# Altium footprint library Mechanical components.PcbLib: 4 footprints
Each footprint in its own frame and in the unit in brackets; x right, y up, seen from the top. Pads: shape width x height; smd on the part's side, far side on the other; paste and mask are expansions set on the pad; w line width, h text height; cw(c..) or ccw(c..) is an arc to the next point about the centre after c.
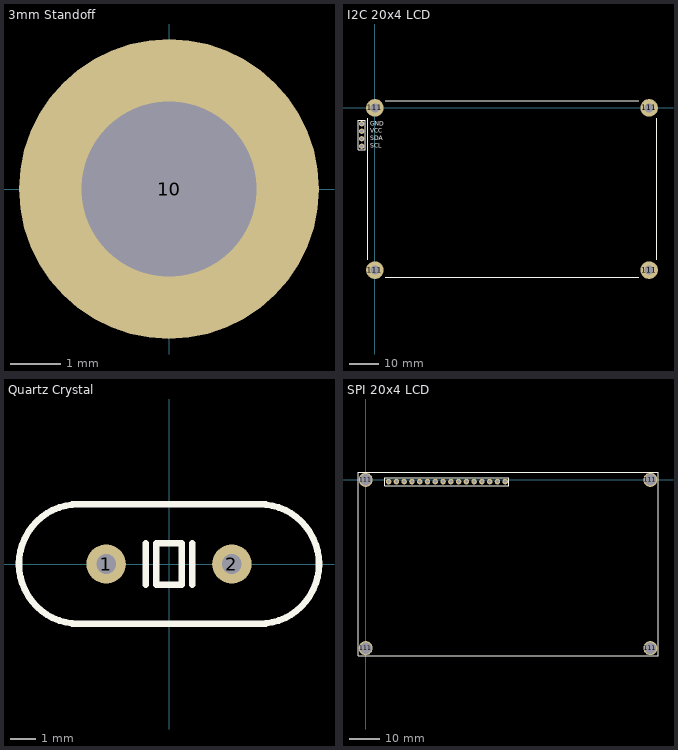
[diagram p0: the footprints below, top view; thin cyan lines are the x and y axes]

## 3mm Standoff [mm]
pads (1):
  round 6 hole 3.5: 10(0,0)

## I2C 20x4 LCD [mm] "20x4 LCD screen I2C interface"
pads (8):
  round 1.8 hole 1: 1(-4.5,-5.38) 2(-4.5,-7.92) 3(-4.5,-10.46) 4(-4.5,-13)
  round 6 hole 3.1: 111(0,-55) 111(0,0) 111(93,-55) 111(93,0)
Top Overlay:
  lines w0.254: -2.5,-51.5 -2.5,-3.5 ; 3.5,-57.5 89.5,-57.5 ; 3.5,2.5 89.5,2.5 ; 95.5,-51.5 95.5,-3.5 ; -5.73,-14.19 -5.73,-4.19 -3.23,-4.19 -3.23,-14.19 -5.73,-14.19
  text "SCL" at -1.646,-13.526 h1.52
  text "SDA" at -1.646,-10.926 h1.52
  text "VCC" at -1.646,-8.426 h1.52
  text "GND" at -1.646,-6.026 h1.52
3D body "Lcd i2c.STEP": height 21.54, standoff 2.59, extent -2.5,-57.46 95.5,2.54
3D body "M3_M_TO_F_10MM_STANDOFF.STEP": height 16, standoff 0, extent -2.887,-57.5 2.887,-52.5
3D body "M3_M_TO_F_10MM_STANDOFF.STEP": height 16, standoff 0, extent 90.113,-57.5 95.887,-52.5
3D body "M3_M_TO_F_10MM_STANDOFF.STEP": height 16, standoff 0, extent 90.113,-2.5 95.887,2.5
3D body "M3_M_TO_F_10MM_STANDOFF.STEP": height 16, standoff 0, extent -2.887,-2.5 2.887,2.5

## Quartz Crystal [mil]
pads (2):
  round 60 hole 30: 1(-96.06,0) 2(96.06,0)
Top Overlay:
  lines w10: -35.43,-31.5 -35.43,31.5 ; 35.43,-31.5 35.43,31.5 ; -137.8,-91.54 cw(c-137.8,0) -137.8,91.54 137.8,91.54 cw(c137.8,0) 137.8,-91.54 -137.8,-91.54 ; -19.68,-31.5 19.68,-31.5 19.68,31.5 -19.68,31.5 -19.68,-31.5
3D body "Crystal Oscillator.STEP": height 149.61, standoff -512.99, extent -226.38,-98.43 226.38,98.43

## SPI 20x4 LCD [mm] "20x4 LCD screen SPI interface"
pads (20):
  round 1.8 hole 1: 1(7.5,-0.6) 2(10.04,-0.6) 3(12.58,-0.6) 4(15.12,-0.6) 5(17.66,-0.6) 6(20.2,-0.6) 7(22.74,-0.6) 8(25.28,-0.6) 9(27.82,-0.6) 10(30.36,-0.6) 11(32.9,-0.6) 12(35.44,-0.6) 13(37.98,-0.6) 14(40.52,-0.6) 15(43.06,-0.6) 16(45.6,-0.6)
  round 4.6 hole 3.8: 111(0,-55) 111(0,0) 111(93,-55) 111(93,0)
Top Overlay:
  lines w0.254: 46.735,-1.88 6.26,-1.88 6.26,0.62 46.735,0.62 ; 46.74,-1.88 46.74,0.62 ; -2.5,-57.5 95.5,-57.5 95.5,2.5 -2.5,2.5 -2.5,-57.5
3D body "M3_M_TO_F_10MM_STANDOFF.STEP": height 16, standoff 0, extent -2.887,-57.5 2.887,-52.5
3D body "M3_M_TO_F_10MM_STANDOFF.STEP": height 16, standoff 0, extent 90.113,-57.5 95.887,-52.5
3D body "M3_M_TO_F_10MM_STANDOFF.STEP": height 16, standoff 0, extent 90.113,-2.5 95.887,2.5
3D body "M3_M_TO_F_10MM_STANDOFF.STEP": height 16, standoff 0, extent -2.887,-2.5 2.887,2.5
3D body "QP5522 Jaycar 20x4 LCD Module v14.step": height 21.54, standoff 2, extent -2.5,-57.46 95.5,2.54
3D body "16-Pin Header - Female - 2.54mm.step": height 5, standoff -3, extent 5.93,-1.85 47.07,0.65